# Altium schematic symbol library RLC.SchLib: 218 symbols (part 2 of 3)
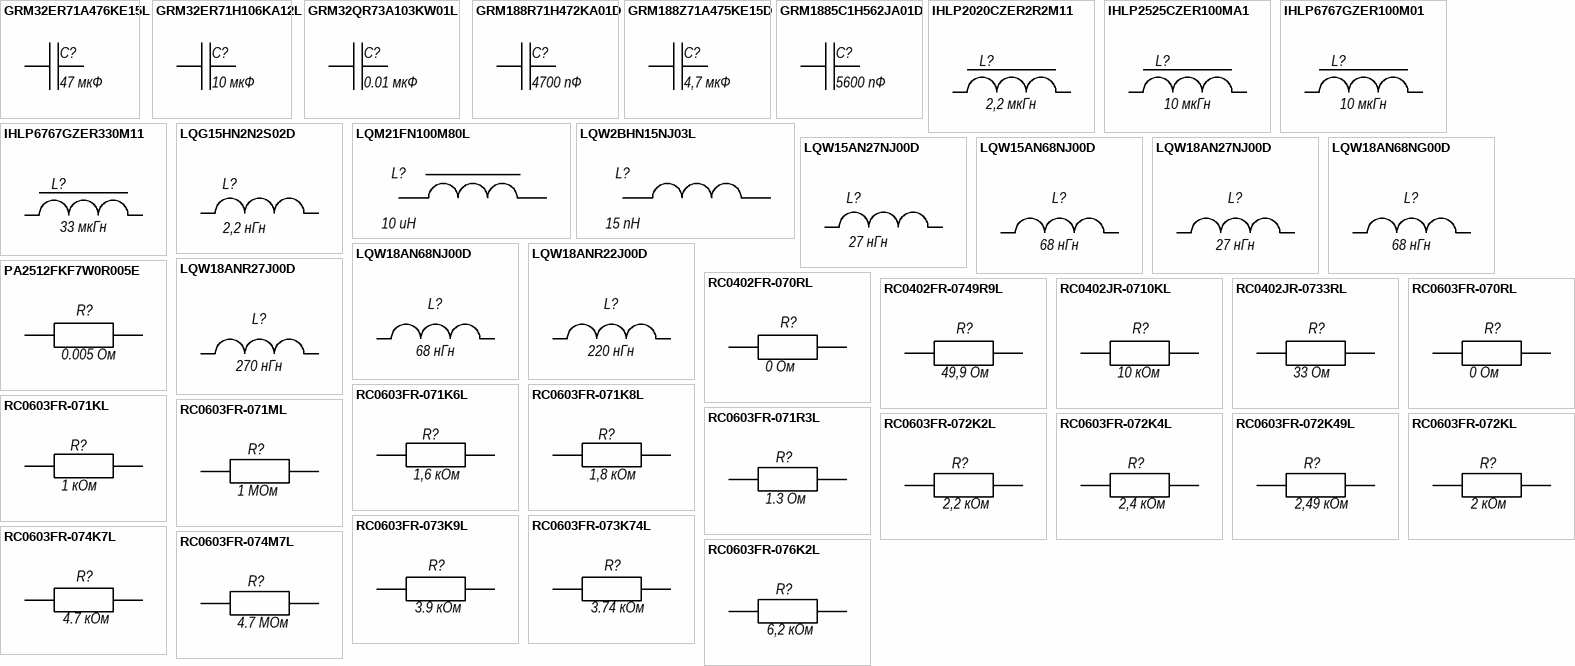
[diagram p6: symbols GRM32ER71A476KE15L to RC0603FR-076K2L]

## LQW15AN27NJ00D
designator L?, comment 27 нГн
SMD 0402 -27 нГн±5% 0,3 A; Part Number: LQW15AN27NJ00D; Manufacturer: Murata; BOM1: L0402 -27n Hr±5% 0,3 A; BOM2: LQW15A-27 нГн±5% 0,3 A; ValueBOM: LQW15AN27NJ00D   Murata                            (LQW15A-27 нГн±5% 0,3 A); Value: 27 нГн; Package: 0806
footprint INDC_0402_1005N (Chip Inductor, Body 1.1x0.5mm, IPC Medium Density)
footprint INDC_0402_1005M (Chip Inductor, Body 1.1x0.5mm, IPC Low Density)
footprint INDC_0402_1005L (Chip Inductor, Body 1.1x0.5mm, IPC High Density)
pins: 1, 2

## LQW15AN68NJ00D
designator L?, comment 68 нГн
SMD 0402 -68 нГн±5% 0,14 A; Part Number: LQW15AN68NJ00D; Manufacturer: Murata; BOM1: L0402 -68n Hr±5% 0,14 A; BOM2: LQW15A-68 нГн±5% 0,14 A; ValueBOM: LQW15AN68NJ00D   Murata                            (LQW15A-68 нГн±5% 0,14 A); Value: 68 нГн; Package: 0402
footprint INDC_0402_1005N (Chip Inductor, Body 1.1x0.5mm, IPC Medium Density)
footprint INDC_0402_1005M (Chip Inductor, Body 1.1x0.5mm, IPC Low Density)
footprint INDC_0402_1005L (Chip Inductor, Body 1.1x0.5mm, IPC High Density)
pins: 1, 2

## LQW18AN27NJ00D
designator L?, comment 27 нГн
SMD 0603 -27 нГн±5% 0,44 A; Part Number: LQW18AN27NJ00D; Manufacturer: Murata; BOM1: L0603 -27n Hr±5% 0,44 A; BOM2: LQW18A-27 нГн±5% 0,44 A; ValueBOM: LQW18AN27NJ00D   Murata                            (LQW18A-27 нГн±5% 0,44 A); Value: 27 нГн; Package: 0603
footprint INDC_0603_1608L (Chip Inductor, Body 1.6x0.8mm, IPC High Density)
footprint INDC_0603_1608M (Chip Inductor, Body 1.6x0.8mm, IPC Low Density)
footprint INDC_0603_1608N (Chip Inductor, Body 1.6x0.8mm, IPC Medium Density)
pins: 1, 2

## LQW18AN68NG00D
designator L?, comment 68 нГн
SMD 0603 -68 нГн±2% 0,34 A; Part Number: LQW18AN68NG00D; Manufacturer: Murata; BOM1: L0603 -68n Hr±2% 0,34 A; BOM2: LQW18A-68 нГн±2% 0,34 A; ValueBOM: LQW18AN68NG00D   Murata                            (LQW18A-68 нГн±2% 0,34 A); Value: 68 нГн; Package: 0603
footprint INDC_0603_1608L (Chip Inductor, Body 1.6x0.8mm, IPC High Density)
footprint INDC_0603_1608M (Chip Inductor, Body 1.6x0.8mm, IPC Low Density)
footprint INDC_0603_1608N (Chip Inductor, Body 1.6x0.8mm, IPC Medium Density)
pins: 1, 2

## LQW18AN68NJ00D
designator L?, comment 68 нГн
SMD 0603 -68 нГн±5% 0,34 A; Part Number: LQW18AN68NJ00D; Manufacturer: Murata; BOM1: L0603 -68n Hr±5% 0,34 A; BOM2: LQW18A-68 нГн±5% 0,34 A; ValueBOM: LQW18AN68NJ00D   Murata                            (LQW18A-68 нГн±5% 0,34 A); Value: 68 нГн; Package: 0603
footprint INDC_0603_1608L (Chip Inductor, Body 1.6x0.8mm, IPC High Density)
footprint INDC_0603_1608M (Chip Inductor, Body 1.6x0.8mm, IPC Low Density)
footprint INDC_0603_1608N (Chip Inductor, Body 1.6x0.8mm, IPC Medium Density)
pins: 1, 2

## LQW18ANR22J00D
designator L?, comment 220 нГн
SMD 0603 -220 нГн±5% 0,12 A; Part Number: LQW18ANR22J00D; Manufacturer: Murata; BOM1: L0603 -220n Hr±5% 0,12 A; BOM2: LQW18A-220 нГн±5% 0,12 A; ValueBOM: LQW18ANR22J00D   Murata                            (LQW18A-220 нГн±5% 0,12 A); Value: 220 нГн; Package: 0603
footprint INDC_0603_1608L (Chip Inductor, Body 1.6x0.8mm, IPC High Density)
footprint INDC_0603_1608M (Chip Inductor, Body 1.6x0.8mm, IPC Low Density)
footprint INDC_0603_1608N (Chip Inductor, Body 1.6x0.8mm, IPC Medium Density)
pins: 1, 2

## LQW18ANR27J00D
designator L?, comment 270 нГн
SMD 0603 -270 нГн±5% 0,11 A; Part Number: LQW18ANR27J00D; Manufacturer: Murata; BOM1: L0603 -270n Hr±5% 0,11 A; BOM2: LQW18A-270 нГн±5% 0,11 A; ValueBOM: LQW18ANR27J00D   Murata                            (LQW18A-270 нГн±5% 0,11 A); Value: 270 нГн; Package: 0603
footprint INDC_0603_1608L (Chip Inductor, Body 1.6x0.8mm, IPC High Density)
footprint INDC_0603_1608M (Chip Inductor, Body 1.6x0.8mm, IPC Low Density)
footprint INDC_0603_1608N (Chip Inductor, Body 1.6x0.8mm, IPC Medium Density)
pins: 1, 2

## PA2512FKF7W0R005E
designator R?, comment 0.005 Ом
SMD 0.005 OHM 1% 2W 2512; Part Number: PA2512FKF7W0R005E; Manufacturer: Yageo; BOM1: R2512 -0.005 Ohm±1 %; BOM2: RС2512 ±1 %-0.005 Ом; ValueBOM: PA2512FKF7W0R005E   Yageo                            (RС2512 ±1 %-0.005 Ом); Value: 0.005 Ом; Package: 2512
footprint RESC_2512_6332L (Chip Resistor, Body 6.3x3.2mm, IPC High Density)
footprint RESC_2512_6332N (Chip Resistor, Body 6.3x3.2mm, IPC Medium Density)
footprint RESC_2512_6332M (Chip Resistor, Body 6.3x3.2mm, IPC Low Density)
pins: 1, 2

## RC0402FR-070RL
designator R?, comment 0 Ом
SMD 0402 -0 Ом±1 %; Part Number: RC0402FR-070RL; Manufacturer: Yageo; BOM1: R0402 -0 Ohm±1 %; BOM2: RС0402 ±1 %-0 Ом; ValueBOM: RC0402FR-070RL   Yageo                            (RС0402 ±1 %-0 Ом); Value: 0 Ом; Package: 0402
footprint RESC_0402_1005L (Chip Resistor, Body 1.1x0.5mm, IPC High Density)
footprint RESC_0402_1005M (Chip Resistor, Body 1.1x0.5mm, IPC Low Density)
footprint RESC_0402_1005N (Chip Resistor, Body 1.1x0.5mm, IPC Medium Density)
pins: 1, 2

## RC0402FR-0749R9L
designator R?, comment 49,9 Ом
SMD 0402 - 49,9 Ом±1 %; Part Number: RC0402JR-0749R9L; Manufacturer: Yageo; BOM1: R0402 -49.9 Ohm±1 %; BOM2: RС0402 ±1 %-49,9 Ом; ValueBOM: RC0402JR-0749R9L   Yageo                            (RС0402 ±1 %-49,9 Ом); Value: 49,9 Ом; Package: 0402
footprint RESC_0402_1005L (Chip Resistor, Body 1.1x0.5mm, IPC High Density)
footprint RESC_0402_1005M (Chip Resistor, Body 1.1x0.5mm, IPC Low Density)
footprint RESC_0402_1005N (Chip Resistor, Body 1.1x0.5mm, IPC Medium Density)
pins: 1, 2

## RC0402JR-0710KL
designator R?, comment 10 кОм
SMD 0402 - 10 кОм±5 %; Part Number: RC0402JR-0710KL; Manufacturer: Yageo; BOM1: R0402 -10 kOhm±5 %; BOM2: RС0402 ±5 %-10 кОм; ValueBOM: RC0402JR-0710KL   Yageo                            (RС0402 ±5 %-10 кОм); Value: 10 кОм; Package: 0402
footprint RESC_0402_1005L (Chip Resistor, Body 1.1x0.5mm, IPC High Density)
footprint RESC_0402_1005M (Chip Resistor, Body 1.1x0.5mm, IPC Low Density)
footprint RESC_0402_1005N (Chip Resistor, Body 1.1x0.5mm, IPC Medium Density)
pins: 1, 2

## RC0402JR-0733RL
designator R?, comment 33 Ом
SMD 0402 - 33 Ом±5 %; Part Number: RC0402JR-0733RL; Manufacturer: Yageo; BOM1: R0402 -33 Ohm±5 %; BOM2: RС0402 ±5 %-33 Ом; ValueBOM: RC0402JR-0733RL   Yageo                            (RС0402 ±5 %-33 Ом); Value: 33 Ом; Package: 0402
footprint RESC_0402_1005L (Chip Resistor, Body 1.1x0.5mm, IPC High Density)
footprint RESC_0402_1005M (Chip Resistor, Body 1.1x0.5mm, IPC Low Density)
footprint RESC_0402_1005N (Chip Resistor, Body 1.1x0.5mm, IPC Medium Density)
pins: 1, 2

## RC0603FR-070RL
designator R?, comment 0 Ом
SMD 0603 -0 Ом±1 %; Part Number: RC0603FR-070RL; Manufacturer: Yageo; BOM1: R0603 -0 Ohm±1 %; BOM2: RС0603 ±1 %-0 Ом; ValueBOM: RC0603FR-070RL   Yageo                            (RС0603 ±1 %-0 Ом); Value: 0 Ом; Package: 0603
footprint RESC_0603_1608N (Chip Resistor, Body 1.6x0.8mm, IPC Medium Density)
footprint RESC_0603_1608M (Chip Resistor, Body 1.6x0.8mm, IPC Low Density)
footprint RESC_0603_1608L (Chip Resistor, Body 1.6x0.8mm, IPC High Density)
pins: 1, 2

## RC0603FR-071K6L
designator R?, comment 1,6 кОм
SMD 0603 -1,6 кОм±1 %; Part Number: RC0603FR-071K6L; Manufacturer: Yageo; BOM1: R0603 -1,6K Ohm±1 %; BOM2: RС0603 ±1 %-1,6 кОм; ValueBOM: RC0603FR-071K6L   Yageo                            (RС0603 ±1 %-1,6 кОм); Value: 1,6 кОм; Package: 0603
footprint RESC_0603_1608N (Chip Resistor, Body 1.6x0.8mm, IPC Medium Density)
footprint RESC_0603_1608M (Chip Resistor, Body 1.6x0.8mm, IPC Low Density)
footprint RESC_0603_1608L (Chip Resistor, Body 1.6x0.8mm, IPC High Density)
pins: 1, 2

## RC0603FR-071K8L
designator R?, comment 1,8 кОм
SMD 0603 -1,8 кОм±1 %; Part Number: RC0603FR-071K8L; Manufacturer: Yageo; BOM1: R0603 -1,8K Ohm±1 %; BOM2: RС0603 ±1 %-1,8 кОм; ValueBOM: RC0603FR-071K8L   Yageo                            (RС0603 ±1 %-1,8 кОм); Value: 1,8 кОм; Package: 0603
footprint RESC_0603_1608N (Chip Resistor, Body 1.6x0.8mm, IPC Medium Density)
footprint RESC_0603_1608M (Chip Resistor, Body 1.6x0.8mm, IPC Low Density)
footprint RESC_0603_1608L (Chip Resistor, Body 1.6x0.8mm, IPC High Density)
pins: 1, 2

## RC0603FR-071KL
designator R?, comment 1 кОм
SMD 0603 -1 кОм±1 %; Part Number: RC0603FR-071KL; Manufacturer: Yageo; BOM1: R0603 -1K Ohm±1 %; BOM2: RС0603 ±1 %-1 кОм; ValueBOM: RC0603FR-071KL   Yageo                            (RС0603 ±1 %-1 кОм); Value: 1 кОм; Package: 0603
footprint RESC_0603_1608N (Chip Resistor, Body 1.6x0.8mm, IPC Medium Density)
footprint RESC_0603_1608M (Chip Resistor, Body 1.6x0.8mm, IPC Low Density)
footprint RESC_0603_1608L (Chip Resistor, Body 1.6x0.8mm, IPC High Density)
pins: 1, 2

## RC0603FR-071ML
designator R?, comment 1 MОм
SMD 0603 -1 МОм±1 %; Part Number: RC0603FR-071ML; Manufacturer: Yageo; BOM1: R0603 -1M Ohm±1 %; BOM2: RС0603 ±1 %-1 МОм; ValueBOM: RC0603FR-071ML   Yageo                            (RС0603 ±1 %-1 МОм); Value: 1 MОм; Package: 0603
footprint RESC_0603_1608N (Chip Resistor, Body 1.6x0.8mm, IPC Medium Density)
footprint RESC_0603_1608M (Chip Resistor, Body 1.6x0.8mm, IPC Low Density)
footprint RESC_0603_1608L (Chip Resistor, Body 1.6x0.8mm, IPC High Density)
pins: 1, 2

## RC0603FR-071R3L
designator R?, comment 1.3 Ом
SMD 0603 -1.3 Ом±1 %; Part Number: RC0603FR-071R3L; Manufacturer: Yageo; BOM1: R0603 -1.3 Ом Ohm±1 %; BOM2: RС0603 ±1 %-1.3 Ом Ом; ValueBOM: RC0603FR-071R3L   Yageo                            (RС0603 ±1 %-1.3 Ом Ом); Value: 1.3 Ом; Package: 0603
footprint RESC_0603_1608N (Chip Resistor, Body 1.6x0.8mm, IPC Medium Density)
footprint RESC_0603_1608M (Chip Resistor, Body 1.6x0.8mm, IPC Low Density)
footprint RESC_0603_1608L (Chip Resistor, Body 1.6x0.8mm, IPC High Density)
pins: 1, 2

## RC0603FR-072K2L
designator R?, comment 2,2 кОм
SMD 0603 -2,2 кОм±1 %; Part Number: RC0603FR-072K2L; Manufacturer: Yageo; BOM1: R0603 -2,2K Ohm±1 %; BOM2: RС0603 ±1 %-2,2 кОм; ValueBOM: RC0603FR-072K2L   Yageo                            (RС0603 ±1 %-2,2 кОм); Value: 2,2 кОм; Package: 0603
footprint RESC_0603_1608N (Chip Resistor, Body 1.6x0.8mm, IPC Medium Density)
footprint RESC_0603_1608M (Chip Resistor, Body 1.6x0.8mm, IPC Low Density)
footprint RESC_0603_1608L (Chip Resistor, Body 1.6x0.8mm, IPC High Density)
pins: 1, 2

## RC0603FR-072K4L
designator R?, comment 2,4 кОм
SMD 0603 -2,4 кОм±1 %; Part Number: RC0603FR-072K4L; Manufacturer: Yageo; BOM1: R0603 -2,4K Ohm±1 %; BOM2: RС0603 ±1 %-2,4 кОм; ValueBOM: RC0603FR-072K4L   Yageo                            (RС0603 ±1 %-2,4 кОм); Value: 2,4 кОм; Package: 0603
footprint RESC_0603_1608N (Chip Resistor, Body 1.6x0.8mm, IPC Medium Density)
footprint RESC_0603_1608M (Chip Resistor, Body 1.6x0.8mm, IPC Low Density)
footprint RESC_0603_1608L (Chip Resistor, Body 1.6x0.8mm, IPC High Density)
pins: 1, 2

## RC0603FR-072K49L
designator R?, comment 2,49 кОм
SMD 0603 -2,49 кОм±1 %; Part Number: RC0603FR-072K49L; Manufacturer: Yageo; BOM1: R0603 -2,49K Ohm±1 %; BOM2: RС0603 ±1 %-2,49 кОм; ValueBOM: RC0603FR-072K49L   Yageo                            (RС0603 ±1 %-2,49 кОм); Value: 2,49 кОм; Package: 0603
footprint RESC_0603_1608N (Chip Resistor, Body 1.6x0.8mm, IPC Medium Density)
footprint RESC_0603_1608M (Chip Resistor, Body 1.6x0.8mm, IPC Low Density)
footprint RESC_0603_1608L (Chip Resistor, Body 1.6x0.8mm, IPC High Density)
pins: 1, 2

## RC0603FR-072KL
designator R?, comment 2 кОм
SMD 0603 -2 кОм±1 %; Part Number: RC0603FR-072KL; Manufacturer: Yageo; BOM1: R0603 -2K Ohm±1 %; BOM2: RС0603 ±1 %-2 кОм; ValueBOM: RC0603FR-072KL   Yageo                            (RС0603 ±1 %-2 кОм); Value: 2 кОм; Package: 0603
footprint RESC_0603_1608N (Chip Resistor, Body 1.6x0.8mm, IPC Medium Density)
footprint RESC_0603_1608M (Chip Resistor, Body 1.6x0.8mm, IPC Low Density)
footprint RESC_0603_1608L (Chip Resistor, Body 1.6x0.8mm, IPC High Density)
pins: 1, 2

## RC0603FR-073K9L
designator R?, comment 3.9 кОм
SMD 0603 -3.9 кОм±1 %; Part Number: RC0603FR-073K9L; Manufacturer: Yageo; BOM1: R0603 -3.9K Ohm±1 %; BOM2: RС0603 ±1 %-3,9 кОм; ValueBOM: RC0603FR-073K9L   Yageo                            (RС0603 ±1 %-3,9 кОм); Value: 3.9 кОм; Package: 0603
footprint RESC_0603_1608N (Chip Resistor, Body 1.6x0.8mm, IPC Medium Density)
footprint RESC_0603_1608M (Chip Resistor, Body 1.6x0.8mm, IPC Low Density)
footprint RESC_0603_1608L (Chip Resistor, Body 1.6x0.8mm, IPC High Density)
pins: 1, 2

## RC0603FR-073K74L
designator R?, comment 3.74 кОм
SMD 0603 -3.74 кОм±1 %; Part Number: RC0603FR-073K74L; Manufacturer: Yageo; BOM1: R0603 -3.74K Ohm±1 %; BOM2: RС0603 ±1 %-3,74 кОм; ValueBOM: RC0603FR-073K74L   Yageo                            (RС0603 ±1 %-3,74 кОм); Value: 3.74 кОм; Package: 0603
footprint RESC_0603_1608N (Chip Resistor, Body 1.6x0.8mm, IPC Medium Density)
footprint RESC_0603_1608M (Chip Resistor, Body 1.6x0.8mm, IPC Low Density)
footprint RESC_0603_1608L (Chip Resistor, Body 1.6x0.8mm, IPC High Density)
pins: 1, 2

## RC0603FR-074K7L
designator R?, comment 4.7 кОм
SMD 0603 -4.7 кОм±1 %; Part Number: RC0603FR-074K7L; Manufacturer: Yageo; BOM1: R0603 -4.7K Ohm±1 %; BOM2: RС0603 ±1 %-4,7 кОм; ValueBOM: RC0603FR-074K7L   Yageo                            (RС0603 ±1 %-4,7 кОм); Value: 4.7 кОм; Package: 0603
footprint RESC_0603_1608N (Chip Resistor, Body 1.6x0.8mm, IPC Medium Density)
footprint RESC_0603_1608M (Chip Resistor, Body 1.6x0.8mm, IPC Low Density)
footprint RESC_0603_1608L (Chip Resistor, Body 1.6x0.8mm, IPC High Density)
pins: 1, 2

## RC0603FR-074M7L
designator R?, comment 4.7 MОм
SMD 0603 -4.7 МОм±1 %; Part Number: RC0603FR-074M7L; Manufacturer: Yageo; BOM1: R0603 -4.7 M Ohm±1 %; BOM2: RС0603 ±1 %-4,7 МОм; ValueBOM: RC0603FR-074M7L   Yageo                            (RС0603 ±1 %-4,7 МОм); Value: 4.7 MОм; Package: 0603
footprint RESC_0603_1608N (Chip Resistor, Body 1.6x0.8mm, IPC Medium Density)
footprint RESC_0603_1608M (Chip Resistor, Body 1.6x0.8mm, IPC Low Density)
footprint RESC_0603_1608L (Chip Resistor, Body 1.6x0.8mm, IPC High Density)
pins: 1, 2

## RC0603FR-076K2L
designator R?, comment 6,2 кОм
SMD 0603 -6,2 кОм±1 %; Part Number: RC0603FR-076K2L; Manufacturer: Yageo; BOM1: R0603 -6,2K Ohm±1 %; BOM2: RС0603 ±1 %-6,2 кОм; ValueBOM: RC0603FR-076K2L   Yageo                            (RС0603 ±1 %-6,2 кОм); Value: 6,2 кОм; Package: 0603
footprint RESC_0603_1608N (Chip Resistor, Body 1.6x0.8mm, IPC Medium Density)
footprint RESC_0603_1608M (Chip Resistor, Body 1.6x0.8mm, IPC Low Density)
footprint RESC_0603_1608L (Chip Resistor, Body 1.6x0.8mm, IPC High Density)
pins: 1, 2

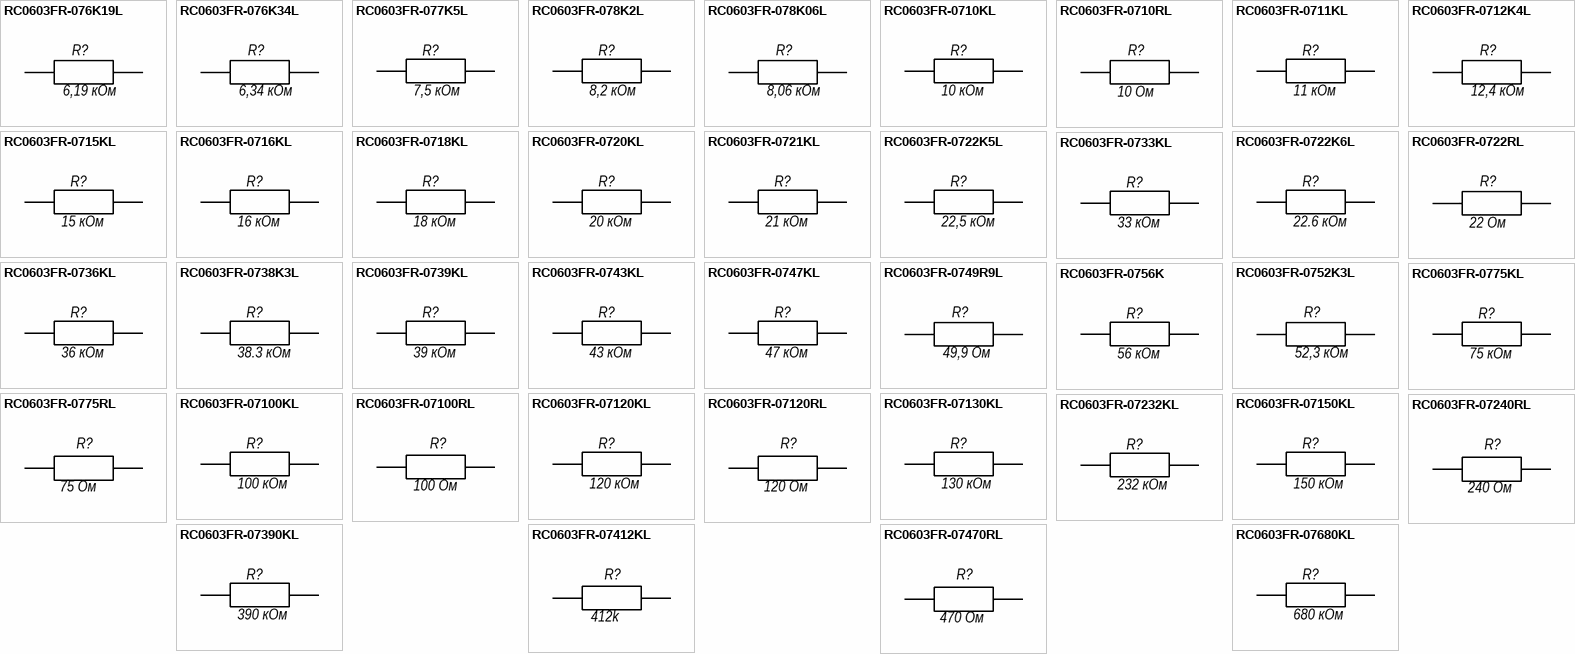
[diagram p3: symbols RC0603FR-076K19L to RC0603FR-07680KL]

## RC0603FR-076K19L
designator R?, comment 6,19 кОм
SMD 0603 -6,19 кОм±1 %; Part Number: RC0603FR-076K19L; Manufacturer: Yageo; BOM1: R0603 -6,19k Ohm±1 %; BOM2: RС0603 ±1 %-6,19 кОм; ValueBOM: RC0603FR-076K19L   Yageo                            (RС0603 ±1 %-6,19 кОм); Value: 6,19 кОм; Package: 0603
footprint RESC_0603_1608N (Chip Resistor, Body 1.6x0.8mm, IPC Medium Density)
footprint RESC_0603_1608M (Chip Resistor, Body 1.6x0.8mm, IPC Low Density)
footprint RESC_0603_1608L (Chip Resistor, Body 1.6x0.8mm, IPC High Density)
pins: 1, 2

## RC0603FR-076K34L
designator R?, comment 6,34 кОм
SMD 0603 -6,34 кОм±1 %; Part Number: RC0603FR-076K34L; Manufacturer: Yageo; BOM1: R0603 -6,34k Ohm±1 %; BOM2: RС0603 ±1 %-6,34 кОм; ValueBOM: RC0603FR-076K34L   Yageo                            (RС0603 ±1 %-6,34 кОм); Value: 6,34 кОм; Package: 0603
footprint RESC_0603_1608N (Chip Resistor, Body 1.6x0.8mm, IPC Medium Density)
footprint RESC_0603_1608M (Chip Resistor, Body 1.6x0.8mm, IPC Low Density)
footprint RESC_0603_1608L (Chip Resistor, Body 1.6x0.8mm, IPC High Density)
pins: 1, 2

## RC0603FR-077K5L
designator R?, comment 7,5 кОм
SMD 0603 -7,5 кОм±1 %; Part Number: RC0603FR-077K5L; Manufacturer: Yageo; BOM1: R0603 -7,5K Ohm±1 %; BOM2: RС0603 ±1 %-7,5 кОм; ValueBOM: RC0603FR-077K5L   Yageo                            (RС0603 ±1 %-7,5 кОм); Value: 7,5 кОм; Package: 0603
footprint RESC_0603_1608N (Chip Resistor, Body 1.6x0.8mm, IPC Medium Density)
footprint RESC_0603_1608M (Chip Resistor, Body 1.6x0.8mm, IPC Low Density)
footprint RESC_0603_1608L (Chip Resistor, Body 1.6x0.8mm, IPC High Density)
pins: 1, 2

## RC0603FR-078K2L
designator R?, comment 8,2 кОм
SMD 0603 -8,2 кОм±1 %; Part Number: RC0603FR-078K2L; Manufacturer: Yageo; BOM1: R0603 -8,2K Ohm±1 %; BOM2: RС0603 ±1 %-8,2 кОм; ValueBOM: RC0603FR-078K2L   Yageo                            (RС0603 ±1 %-8,2 кОм); Value: 8,2 кОм; Package: 0603
footprint RESC_0603_1608N (Chip Resistor, Body 1.6x0.8mm, IPC Medium Density)
footprint RESC_0603_1608M (Chip Resistor, Body 1.6x0.8mm, IPC Low Density)
footprint RESC_0603_1608L (Chip Resistor, Body 1.6x0.8mm, IPC High Density)
pins: 1, 2

## RC0603FR-078K06L
designator R?, comment 8,06 кОм
SMD 0603 -8,06 кОм±1 %; Part Number: RC0603FR-078K06L; Manufacturer: Yageo; BOM1: R0603 -8,06k Ohm±1 %; BOM2: RС0603 ±1 %-8,06 кОм; ValueBOM: RC0603FR-078K06L   Yageo                            (RС0603 ±1 %-8,06 кОм); Value: 8,06 кОм; Package: 0603
footprint RESC_0603_1608N (Chip Resistor, Body 1.6x0.8mm, IPC Medium Density)
footprint RESC_0603_1608M (Chip Resistor, Body 1.6x0.8mm, IPC Low Density)
footprint RESC_0603_1608L (Chip Resistor, Body 1.6x0.8mm, IPC High Density)
pins: 1, 2

## RC0603FR-0710KL
designator R?, comment 10 кОм
SMD 0603 -10 кОм±1 %; Part Number: RC0603FR-0710KL; Manufacturer: Yageo; BOM1: R0603 -10K Ohm±1 %; BOM2: RС0603 ±1 %-10 кОм; ValueBOM: RC0603FR-0710KL   Yageo                            (RС0603 ±1 %-10 кОм); Value: 10 кОм; Package: 0603
footprint RESC_0603_1608N (Chip Resistor, Body 1.6x0.8mm, IPC Medium Density)
footprint RESC_0603_1608M (Chip Resistor, Body 1.6x0.8mm, IPC Low Density)
footprint RESC_0603_1608L (Chip Resistor, Body 1.6x0.8mm, IPC High Density)
pins: 1, 2

## RC0603FR-0710RL
designator R?, comment 10 Ом
SMD 0603 -10 Ом±1 %; Part Number: RC0603FR-0710RL; Manufacturer: Yageo; BOM1: R0603 -10 Ohm±1 %; BOM2: RС0603 ±1 %-10 Ом; ValueBOM: RC0603FR-0710RL   Yageo                            (RС0603 ±1 %-10 Ом); Value: 10 Ом; Package: 0603
footprint RESC_0603_1608N (Chip Resistor, Body 1.6x0.8mm, IPC Medium Density)
footprint RESC_0603_1608M (Chip Resistor, Body 1.6x0.8mm, IPC Low Density)
footprint RESC_0603_1608L (Chip Resistor, Body 1.6x0.8mm, IPC High Density)
pins: 1, 2

## RC0603FR-0711KL
designator R?, comment 11 кОм
SMD 0603 -11 кОм±1 %; Part Number: RC0603FR-0711KL; Manufacturer: Yageo; BOM1: R0603 -11K Ohm±1 %; BOM2: RС0603 ±1 %-11 кОм; ValueBOM: RC0603FR-0711KL   Yageo                            (RС0603 ±1 %-11 кОм); Value: 11 кОм; Package: 0603
footprint RESC_0603_1608N (Chip Resistor, Body 1.6x0.8mm, IPC Medium Density)
footprint RESC_0603_1608M (Chip Resistor, Body 1.6x0.8mm, IPC Low Density)
footprint RESC_0603_1608L (Chip Resistor, Body 1.6x0.8mm, IPC High Density)
pins: 1, 2

## RC0603FR-0712K4L
designator R?, comment 12,4 кОм
SMD 0603 -12,4 кОм±1 %; Part Number: RC0603FR-0712K4L; Manufacturer: Yageo; BOM1: R0603 -12,4K Ohm±1 %; BOM2: RС0603 ±1 %-12,4 кОм; ValueBOM: RC0603FR-0712K4L   Yageo                            (RС0603 ±1 %-12,4 кОм); Value: 12,4 кОм; Package: 0603
footprint RESC_0603_1608N (Chip Resistor, Body 1.6x0.8mm, IPC Medium Density)
footprint RESC_0603_1608M (Chip Resistor, Body 1.6x0.8mm, IPC Low Density)
footprint RESC_0603_1608L (Chip Resistor, Body 1.6x0.8mm, IPC High Density)
pins: 1, 2

## RC0603FR-0715KL
designator R?, comment 15 кОм
SMD 0603 -15 кОм±1 %; Part Number: RC0603FR-0715KL; Manufacturer: Yageo; BOM1: R0603 -15K Ohm±1 %; BOM2: RС0603 ±1 %-15 кОм; ValueBOM: RC0603FR-0715KL   Yageo                            (RС0603 ±1 %-15 кОм); Value: 15 кОм; Package: 0603
footprint RESC_0603_1608N (Chip Resistor, Body 1.6x0.8mm, IPC Medium Density)
footprint RESC_0603_1608M (Chip Resistor, Body 1.6x0.8mm, IPC Low Density)
footprint RESC_0603_1608L (Chip Resistor, Body 1.6x0.8mm, IPC High Density)
pins: 1, 2

## RC0603FR-0716KL
designator R?, comment 16 кОм
SMD 0603 -16 кОм±1 %; Part Number: RC0603FR-0716KL; Manufacturer: Yageo; BOM1: R0603 -16K Ohm±1 %; BOM2: RС0603 ±1 %-16 кОм; ValueBOM: RC0603FR-0716KL   Yageo                            (RС0603 ±1 %-16 кОм); Value: 16 кОм; Package: 0603
footprint RESC_0603_1608N (Chip Resistor, Body 1.6x0.8mm, IPC Medium Density)
footprint RESC_0603_1608M (Chip Resistor, Body 1.6x0.8mm, IPC Low Density)
footprint RESC_0603_1608L (Chip Resistor, Body 1.6x0.8mm, IPC High Density)
pins: 1, 2

## RC0603FR-0718KL
designator R?, comment 18 кОм
SMD 0603 -18 кОм±1 %; Part Number: RC0603FR-0718KL; Manufacturer: Yageo; BOM1: R0603 -18K Ohm±1 %; BOM2: RС0603 ±1 %-18 кОм; ValueBOM: RC0603FR-0718KL   Yageo                            (RС0603 ±1 %-18 кОм); Value: 18 кОм; Package: 0603
footprint RESC_0603_1608N (Chip Resistor, Body 1.6x0.8mm, IPC Medium Density)
footprint RESC_0603_1608M (Chip Resistor, Body 1.6x0.8mm, IPC Low Density)
footprint RESC_0603_1608L (Chip Resistor, Body 1.6x0.8mm, IPC High Density)
pins: 1, 2

## RC0603FR-0720KL
designator R?, comment 20 кОм
SMD 0603 -20 кОм±1 %; Part Number: RC0603FR-0720KL; Manufacturer: Yageo; BOM1: R0603 -20K Ohm±1 %; BOM2: RС0603 ±1 %-20 кОм; ValueBOM: RC0603FR-0720KL   Yageo                            (RС0603 ±1 %-20 кОм); Value: 20 кОм; Package: 0603
footprint RESC_0603_1608N (Chip Resistor, Body 1.6x0.8mm, IPC Medium Density)
footprint RESC_0603_1608M (Chip Resistor, Body 1.6x0.8mm, IPC Low Density)
footprint RESC_0603_1608L (Chip Resistor, Body 1.6x0.8mm, IPC High Density)
pins: 1, 2

## RC0603FR-0721KL
designator R?, comment 21 кОм
SMD 0603 -21 кОм±1 %; Part Number: RC0603FR-0721KL; Manufacturer: Yageo; BOM1: R0603 -21K Ohm±1 %; BOM2: RС0603 ±1 %-21 кОм; ValueBOM: RC0603FR-0721KL   Yageo                            (RС0603 ±1 %-21 кОм); Value: 21 кОм; Package: 0603
footprint RESC_0603_1608N (Chip Resistor, Body 1.6x0.8mm, IPC Medium Density)
footprint RESC_0603_1608M (Chip Resistor, Body 1.6x0.8mm, IPC Low Density)
footprint RESC_0603_1608L (Chip Resistor, Body 1.6x0.8mm, IPC High Density)
pins: 1, 2

## RC0603FR-0722K5L
designator R?, comment 22,5 кОм
SMD 0603 -22,5 кОм±1 %; Part Number: RC0603FR-0722K5L; Manufacturer: Yageo; BOM1: R0603 -22,5K Ohm±1 %; BOM2: RС0603 ±1 %-22,5 кОм; ValueBOM: RC0603FR-0722K5L   Yageo                            (RС0603 ±1 %-22,5 кОм); Value: 22,5 кОм; Package: 0603
footprint RESC_0603_1608N (Chip Resistor, Body 1.6x0.8mm, IPC Medium Density)
footprint RESC_0603_1608M (Chip Resistor, Body 1.6x0.8mm, IPC Low Density)
footprint RESC_0603_1608L (Chip Resistor, Body 1.6x0.8mm, IPC High Density)
pins: 1, 2

## RC0603FR-0722K6L
designator R?, comment 22.6 кОм
SMD 0603 -22.6 кОм±1 %; Part Number: RC0603FR-0722K6L; Manufacturer: Yageo; BOM1: R0603 -22.6K Ohm±1 %; BOM2: RС0603 ±1 %-22,6 кОм; ValueBOM: RC0603FR-0722K6L   Yageo                            (RС0603 ±1 %-22,6 кОм); Value: 22.6 кОм; Package: 0603
footprint RESC_0603_1608N (Chip Resistor, Body 1.6x0.8mm, IPC Medium Density)
footprint RESC_0603_1608M (Chip Resistor, Body 1.6x0.8mm, IPC Low Density)
footprint RESC_0603_1608L (Chip Resistor, Body 1.6x0.8mm, IPC High Density)
pins: 1, 2

## RC0603FR-0722RL
designator R?, comment 22 Ом
SMD 0603 -22 Ом±1 %; Part Number: RC0603FR-0722RL; Manufacturer: Yageo; BOM1: R0603 -22 Ohm±1 %; BOM2: RС0603 ±1 %-22 Ом; ValueBOM: RC0603FR-0722RL   Yageo                            (RС0603 ±1 %-22 Ом); Value: 22 Ом; Package: 0603
footprint RESC_0603_1608N (Chip Resistor, Body 1.6x0.8mm, IPC Medium Density)
footprint RESC_0603_1608M (Chip Resistor, Body 1.6x0.8mm, IPC Low Density)
footprint RESC_0603_1608L (Chip Resistor, Body 1.6x0.8mm, IPC High Density)
pins: 1, 2

## RC0603FR-0733KL
designator R?, comment 33 кОм
SMD 0603 -33 кОм±1 %; Part Number: RC0603FR-0733KL; Manufacturer: Yageo; BOM1: R0603 -33K Ohm±1 %; BOM2: RС0603 ±1 %-33 кОм; ValueBOM: RC0603FR-0733KL   Yageo                            (RС0603 ±1 %-33 кОм); Value: 33 кОм; Package: 0603
footprint RESC_0603_1608N (Chip Resistor, Body 1.6x0.8mm, IPC Medium Density)
footprint RESC_0603_1608M (Chip Resistor, Body 1.6x0.8mm, IPC Low Density)
footprint RESC_0603_1608L (Chip Resistor, Body 1.6x0.8mm, IPC High Density)
pins: 1, 2

## RC0603FR-0736KL
designator R?, comment 36 кОм
SMD 0603 -36 кОм±1 %; Part Number: RC0603FR-0736KL; Manufacturer: Yageo; BOM1: R0603 -36K Ohm±1 %; BOM2: RС0603 ±1 %-36 кОм; ValueBOM: RC0603FR-0736KL   Yageo                            (RС0603 ±1 %-36 кОм); Value: 36 кОм; Package: 0603
footprint RESC_0603_1608N (Chip Resistor, Body 1.6x0.8mm, IPC Medium Density)
footprint RESC_0603_1608M (Chip Resistor, Body 1.6x0.8mm, IPC Low Density)
footprint RESC_0603_1608L (Chip Resistor, Body 1.6x0.8mm, IPC High Density)
pins: 1, 2

## RC0603FR-0738K3L
designator R?, comment 38.3 кОм
SMD 0603 -38.3 кОм±1 %; Part Number: RC0603FR-0738K3L; Manufacturer: Yageo; BOM1: R0603 -38.3K Ohm±1 %; BOM2: RС0603 ±1 %-38,3 кОм; ValueBOM: RC0603FR-0738K3L   Yageo                            (RС0603 ±1 %-38,3 кОм); Value: 38.3 кОм; Package: 0603
footprint RESC_0603_1608N (Chip Resistor, Body 1.6x0.8mm, IPC Medium Density)
footprint RESC_0603_1608M (Chip Resistor, Body 1.6x0.8mm, IPC Low Density)
footprint RESC_0603_1608L (Chip Resistor, Body 1.6x0.8mm, IPC High Density)
pins: 1, 2

## RC0603FR-0739KL
designator R?, comment 39 кОм
SMD 0603 -39 кОм±1 %; Part Number: RC0603FR-0739KL; Manufacturer: Yageo; BOM1: R0603 -39K Ohm±1 %; BOM2: RС0603 ±1 %-39 кОм; ValueBOM: RC0603FR-0739KL   Yageo                            (RС0603 ±1 %-39 кОм); Value: 39 кОм; Package: 0603
footprint RESC_0603_1608N (Chip Resistor, Body 1.6x0.8mm, IPC Medium Density)
footprint RESC_0603_1608M (Chip Resistor, Body 1.6x0.8mm, IPC Low Density)
footprint RESC_0603_1608L (Chip Resistor, Body 1.6x0.8mm, IPC High Density)
pins: 1, 2

## RC0603FR-0743KL
designator R?, comment 43 кОм
SMD 0603 -43 кОм±1 %; Part Number: RC0603FR-0743KL; Manufacturer: Yageo; BOM1: R0603 -43K Ohm±1 %; BOM2: RС0603 ±1 %-43 кОм; ValueBOM: RC0603FR-0743KL   Yageo                            (RС0603 ±1 %-43 кОм); Value: 43 кОм; Package: 0603
footprint RESC_0603_1608N (Chip Resistor, Body 1.6x0.8mm, IPC Medium Density)
footprint RESC_0603_1608M (Chip Resistor, Body 1.6x0.8mm, IPC Low Density)
footprint RESC_0603_1608L (Chip Resistor, Body 1.6x0.8mm, IPC High Density)
pins: 1, 2

## RC0603FR-0747KL
designator R?, comment 47 кОм
SMD 0603 -47 кОм±1 %; Part Number: RC0603FR-0747KL; Manufacturer: Yageo; BOM1: R0603 -47K Ohm±1 %; BOM2: RС0603 ±1 %-47 кОм; ValueBOM: RC0603FR-0747KL   Yageo                            (RС0603 ±1 %-47 кОм); Value: 47 кОм; Package: 0603
footprint RESC_0603_1608N (Chip Resistor, Body 1.6x0.8mm, IPC Medium Density)
footprint RESC_0603_1608M (Chip Resistor, Body 1.6x0.8mm, IPC Low Density)
footprint RESC_0603_1608L (Chip Resistor, Body 1.6x0.8mm, IPC High Density)
pins: 1, 2

## RC0603FR-0749R9L
designator R?, comment 49,9 Ом
SMD 0603 -49,9 Ом±1 %; Part Number: RC0603FR-0749R9L; Manufacturer: Yageo; BOM1: R0603 -49,9 Ohm±1 %; BOM2: RС0603 ±1 %-49,9 кОм; ValueBOM: RC0603FR-0749R9L   Yageo                            (RС0603 ±1 %-49,9 кОм); Value: 49,9 Ом; Package: 0603
footprint RESC_0603_1608N (Chip Resistor, Body 1.6x0.8mm, IPC Medium Density)
footprint RESC_0603_1608M (Chip Resistor, Body 1.6x0.8mm, IPC Low Density)
footprint RESC_0603_1608L (Chip Resistor, Body 1.6x0.8mm, IPC High Density)
pins: 1, 2

## RC0603FR-0752K3L
designator R?, comment 52,3 кОм
SMD 0603 -52,3 кОм±1 %; Part Number: RC0603FR-0752K3L; Manufacturer: Yageo; BOM1: R0603 -52,3K Ohm±1 %; BOM2: RС0603 ±1 %-52,3 кОм; ValueBOM: RC0603FR-0752K3L   Yageo                            (RС0603 ±1 %-52,3 кОм); Value: 52,3 кОм; Package: 0603
footprint RESC_0603_1608N (Chip Resistor, Body 1.6x0.8mm, IPC Medium Density)
footprint RESC_0603_1608M (Chip Resistor, Body 1.6x0.8mm, IPC Low Density)
footprint RESC_0603_1608L (Chip Resistor, Body 1.6x0.8mm, IPC High Density)
pins: 1, 2

## RC0603FR-0756K
designator R?, comment 56 кОм
SMD 0603 -56 кОм±1 %; Part Number: RC0603FR-0756K; Manufacturer: Yageo; BOM1: R0603 -56K Ohm±1 %; BOM2: RС0603 ±1 %-56 кОм; ValueBOM: RC0603FR-0756K   Yageo                            (RС0603 ±1 %-56 кОм); Value: 56 кОм; Package: 0603
footprint RESC_0603_1608N (Chip Resistor, Body 1.6x0.8mm, IPC Medium Density)
footprint RESC_0603_1608M (Chip Resistor, Body 1.6x0.8mm, IPC Low Density)
footprint RESC_0603_1608L (Chip Resistor, Body 1.6x0.8mm, IPC High Density)
pins: 1, 2

## RC0603FR-0775KL
designator R?, comment 75 кОм
SMD 0603 -75 кОм±1 %; Part Number: RC0603FR-0775KL; Manufacturer: Yageo; BOM1: R0603 -75K Ohm±1 %; BOM2: RС0603 ±1 %-75 кОм; ValueBOM: RC0603FR-0775KL   Yageo                            (RС0603 ±1 %-75 кОм); Value: 75 кОм; Package: 0603
footprint RESC_0603_1608N (Chip Resistor, Body 1.6x0.8mm, IPC Medium Density)
footprint RESC_0603_1608M (Chip Resistor, Body 1.6x0.8mm, IPC Low Density)
footprint RESC_0603_1608L (Chip Resistor, Body 1.6x0.8mm, IPC High Density)
pins: 1, 2

## RC0603FR-0775RL
designator R?, comment 75 Ом
SMD 0603 -75 Ом±1 %; Part Number: RC0603FR-0775RL; Manufacturer: Yageo; BOM1: R0603 -75 Ohm±1 %; BOM2: RС0603 ±1 %-75 Ом; ValueBOM: RC0603FR-0775RL   Yageo                            (RС0603 ±1 %-75 Ом); Value: 75 Ом; Package: 0603
footprint RESC_0603_1608N (Chip Resistor, Body 1.6x0.8mm, IPC Medium Density)
footprint RESC_0603_1608M (Chip Resistor, Body 1.6x0.8mm, IPC Low Density)
footprint RESC_0603_1608L (Chip Resistor, Body 1.6x0.8mm, IPC High Density)
pins: 1, 2

## RC0603FR-07100KL
designator R?, comment 100 кОм
SMD 0603 -100 кОм±1 %; Part Number: RC0603FR-07100KL; Manufacturer: Yageo; BOM1: R0603 -100K Ohm±1 %; BOM2: RС0603 ±1 %-100 кОм; ValueBOM: RC0603FR-07100KL   Yageo                            (RС0603 ±1 %-100 кОм); Value: 100 кОм; Package: 0603
footprint RESC_0603_1608N (Chip Resistor, Body 1.6x0.8mm, IPC Medium Density)
footprint RESC_0603_1608M (Chip Resistor, Body 1.6x0.8mm, IPC Low Density)
footprint RESC_0603_1608L (Chip Resistor, Body 1.6x0.8mm, IPC High Density)
pins: 1, 2

## RC0603FR-07100RL
designator R?, comment 100 Ом
SMD 0603 -100 Ом±1 %; Part Number: RC0603FR-07100RL; Manufacturer: Yageo; BOM1: R0603 -100 Ohm±1 %; BOM2: RС0603 ±1 %-100 Ом; ValueBOM: RC0603FR-07100RL   Yageo                            (RС0603 ±1 %-100 Ом); Value: 100 Ом; Package: 0603
footprint RESC_0603_1608N (Chip Resistor, Body 1.6x0.8mm, IPC Medium Density)
footprint RESC_0603_1608M (Chip Resistor, Body 1.6x0.8mm, IPC Low Density)
footprint RESC_0603_1608L (Chip Resistor, Body 1.6x0.8mm, IPC High Density)
pins: 1, 2

## RC0603FR-07120KL
designator R?, comment 120 кОм
SMD 0603 -120 кОм±1 %; Part Number: RC0603FR-07100KL; Manufacturer: Yageo; BOM1: R0603 -120K Ohm±1 %; BOM2: RС0603 ±1 %-120 кОм; ValueBOM: RC0603FR-07100KL   Yageo                            (RС0603 ±1 %-120 кОм); Value: 120 кОм; Package: 0603
footprint RESC_0603_1608N (Chip Resistor, Body 1.6x0.8mm, IPC Medium Density)
footprint RESC_0603_1608M (Chip Resistor, Body 1.6x0.8mm, IPC Low Density)
footprint RESC_0603_1608L (Chip Resistor, Body 1.6x0.8mm, IPC High Density)
pins: 1, 2

## RC0603FR-07120RL
designator R?, comment 120 Ом
SMD 0603 -120 Ом±1 %; Part Number: RC0603FR-07120RL; Manufacturer: Yageo; BOM1: R0603 -120 Ohm±1 %; BOM2: RС0603 ±1 %-120 Ом; ValueBOM: RC0603FR-07120RL   Yageo                            (RС0603 ±1 %-120 Ом); Value: 120 Ом; Package: 0603
footprint RESC_0603_1608N (Chip Resistor, Body 1.6x0.8mm, IPC Medium Density)
footprint RESC_0603_1608M (Chip Resistor, Body 1.6x0.8mm, IPC Low Density)
footprint RESC_0603_1608L (Chip Resistor, Body 1.6x0.8mm, IPC High Density)
pins: 1, 2

## RC0603FR-07130KL
designator R?, comment 130 кОм
SMD 0603 -130 кОм±1 %; Part Number: RC0603FR-07130KL; Manufacturer: Yageo; BOM1: R0603 -130K Ohm±1 %; BOM2: RС0603 ±1 %-130 кОм; ValueBOM: RC0603FR-07130KL   Yageo                            (RС0603 ±1 %-130 кОм); Value: 130 кОм; Package: 0603
footprint RESC_0603_1608N (Chip Resistor, Body 1.6x0.8mm, IPC Medium Density)
footprint RESC_0603_1608M (Chip Resistor, Body 1.6x0.8mm, IPC Low Density)
footprint RESC_0603_1608L (Chip Resistor, Body 1.6x0.8mm, IPC High Density)
pins: 1, 2

## RC0603FR-07150KL
designator R?, comment 150 кОм
SMD 0603 -150 кОм±1 %; Part Number: RC0603FR-07150KL; Manufacturer: Yageo; BOM1: R0603 -150K Ohm±1 %; BOM2: RС0603 ±1 %-150 кОм; ValueBOM: RC0603FR-07150KL   Yageo                            (RС0603 ±1 %-150 кОм); Value: 150 кОм; Package: 0603
footprint RESC_0603_1608N (Chip Resistor, Body 1.6x0.8mm, IPC Medium Density)
footprint RESC_0603_1608M (Chip Resistor, Body 1.6x0.8mm, IPC Low Density)
footprint RESC_0603_1608L (Chip Resistor, Body 1.6x0.8mm, IPC High Density)
pins: 1, 2

## RC0603FR-07232KL
designator R?, comment 232 кОм
SMD 0603 -232 кОм±1 %; Part Number: RC0603FR-07232KL; Manufacturer: Yageo; BOM1: R0603 -232K Ohm±1 %; BOM2: RС0603 ±1 %-232 кОм; ValueBOM: RC0603FR-07232KL   Yageo                            (RС0603 ±1 %-232 кОм); Value: 232 кОм; Package: 0603
footprint RESC_0603_1608N (Chip Resistor, Body 1.6x0.8mm, IPC Medium Density)
footprint RESC_0603_1608M (Chip Resistor, Body 1.6x0.8mm, IPC Low Density)
footprint RESC_0603_1608L (Chip Resistor, Body 1.6x0.8mm, IPC High Density)
pins: 1, 2

## RC0603FR-07240RL
designator R?, comment 240 Ом
SMD 0603 -240 Ом±1 %; Part Number: RC0603FR-07240RL; Manufacturer: Yageo; BOM1: R0603 -240 Ohm±1 %; BOM2: RС0603 ±1 %-240 Ом; ValueBOM: RC0603FR-07240RL   Yageo                            (RС0603 ±1 %-240 Ом); Value: 240 Ом; Package: 0603
footprint RESC_0603_1608N (Chip Resistor, Body 1.6x0.8mm, IPC Medium Density)
footprint RESC_0603_1608M (Chip Resistor, Body 1.6x0.8mm, IPC Low Density)
footprint RESC_0603_1608L (Chip Resistor, Body 1.6x0.8mm, IPC High Density)
pins: 1, 2

## RC0603FR-07390KL
designator R?, comment 390 кОм
SMD 0603 -390 кОм±1 %; Part Number: RC0603FR-07390KL; Manufacturer: Yageo; BOM1: R0603 -390K Ohm±1 %; BOM2: RС0603 ±1 %-390 кОм; ValueBOM: RC0603FR-07390KL   Yageo                            (RС0603 ±1 %-390 кОм); Value: 390 кОм; Package: 0603
footprint RESC_0603_1608N (Chip Resistor, Body 1.6x0.8mm, IPC Medium Density)
footprint RESC_0603_1608M (Chip Resistor, Body 1.6x0.8mm, IPC Low Density)
footprint RESC_0603_1608L (Chip Resistor, Body 1.6x0.8mm, IPC High Density)
pins: 1, 2

## RC0603FR-07412KL
designator R?, comment 412k
RC0603FR-07412KL 0603 412 kOhm ±1% 1/10W 0603 SMD -55C...+155C; Manufacturer: Yageo; BOM2: 412 кОм ±1%, 1/10 Вт, SMD 0603, RC0603FR-07412KL; ValueBOM: RC0603FR-07412KL   Yageo                            (412 кОм ±1%, 1/10 Вт, SMD 0603, RC0603FR-07412KL); Value: 412k; Part Number: RC0603FR-07412KL; Package: 0603; BOM1: 412 kOhm ±1% 1/10W 0603 SMD
footprint RESC_0603_1608N (Chip Resistor, Body 1.6x0.8mm, IPC Medium Density)
footprint RESC_0603_1608M (Chip Resistor, Body 1.6x0.8mm, IPC Low Density)
footprint RESC_0603_1608L (Chip Resistor, Body 1.6x0.8mm, IPC High Density)
pins: 1, 2

## RC0603FR-07470RL
designator R?, comment 470 Ом
SMD 0603 -470 Ом±1 %; Part Number: RC0603FR-07470RL; Manufacturer: Yageo; BOM1: R0603 -470 Ohm±1 %; BOM2: RС0603 ±1 %-470 Ом; ValueBOM: RC0603FR-07470RL   Yageo                            (RС0603 ±1 %-470 Ом); Value: 470 Ом; Package: 0603
footprint RESC_0603_1608N (Chip Resistor, Body 1.6x0.8mm, IPC Medium Density)
footprint RESC_0603_1608M (Chip Resistor, Body 1.6x0.8mm, IPC Low Density)
footprint RESC_0603_1608L (Chip Resistor, Body 1.6x0.8mm, IPC High Density)
pins: 1, 2

## RC0603FR-07680KL
designator R?, comment 680 кОм
SMD 0603 -680 кОм±1 %; Part Number: RC0603FR-07680KL; Manufacturer: Yageo; BOM1: R0603 -680K Ohm±1 %; BOM2: RС0603 ±1 %-680 кОм; ValueBOM: RC0603FR-07680KL   Yageo                            (RС0603 ±1 %-680 кОм); Value: 680 кОм; Package: 0603
footprint RESC_0603_1608N (Chip Resistor, Body 1.6x0.8mm, IPC Medium Density)
footprint RESC_0603_1608M (Chip Resistor, Body 1.6x0.8mm, IPC Low Density)
footprint RESC_0603_1608L (Chip Resistor, Body 1.6x0.8mm, IPC High Density)
pins: 1, 2

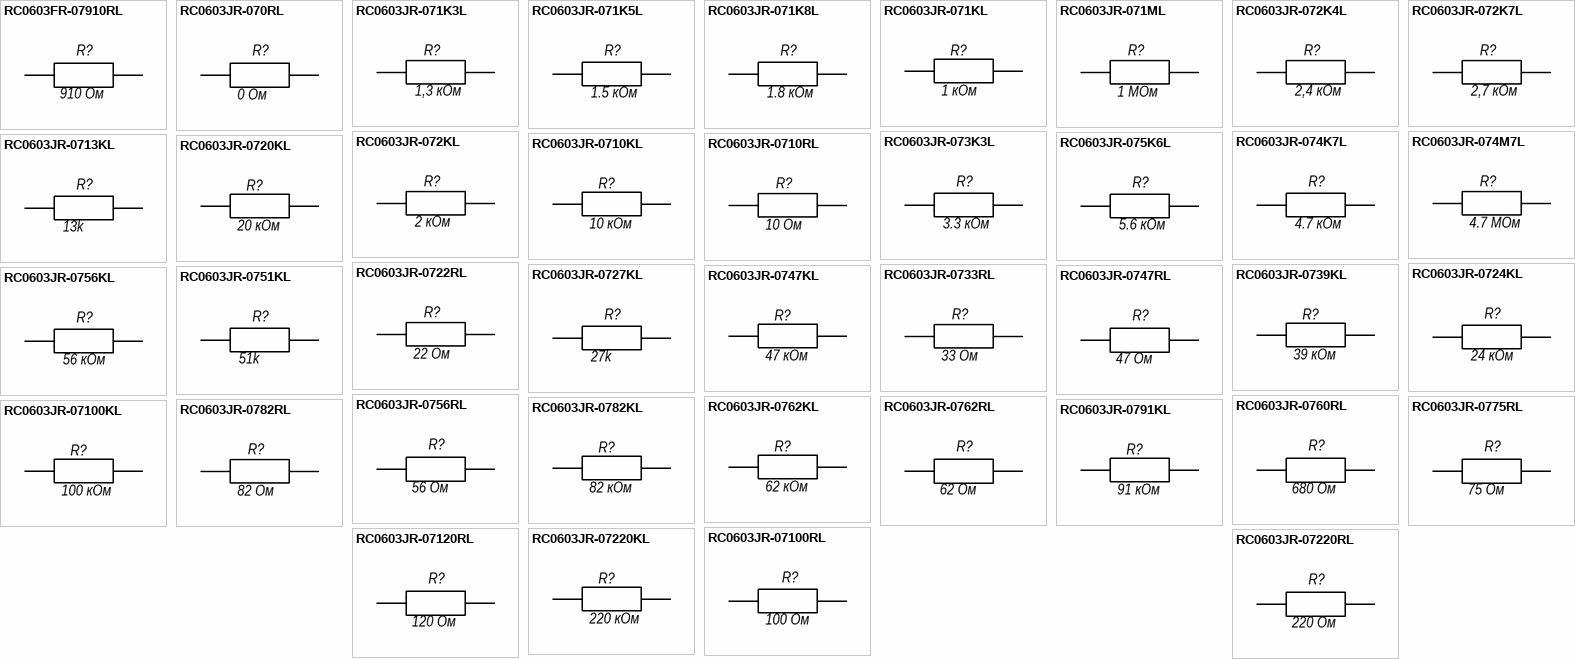
[diagram p4: symbols RC0603FR-07910RL to RC0603JR-07220RL]

## RC0603FR-07910RL
designator R?, comment 910 Ом
SMD 0603 -910 Ом±1 %; Part Number: RC0603FR-07910RL; Manufacturer: Yageo; BOM1: R0603 -910 Ohm±1 %; BOM2: RС0603 ±1 %-910 Ом; ValueBOM: RC0603FR-07910RL   Yageo                            (RС0603 ±1 %-910 Ом); Value: 910 Ом; Package: 0603
footprint RESC_0603_1608N (Chip Resistor, Body 1.6x0.8mm, IPC Medium Density)
footprint RESC_0603_1608M (Chip Resistor, Body 1.6x0.8mm, IPC Low Density)
footprint RESC_0603_1608L (Chip Resistor, Body 1.6x0.8mm, IPC High Density)
pins: 1, 2

## RC0603JR-070RL
designator R?, comment 0 Ом
SMD 0603 -0 Ом±5 %; Part Number: RC0603JR-070RL; Manufacturer: Yageo; BOM1: R0603 -0 Ohm±5 %; BOM2: RС0603 ±5 %-0 Ом; ValueBOM: RC0603JR-070RL   Yageo                            (RС0603 ±5 %-0 Ом); Value: 0 Ом; Package: 0603
footprint RESC_0603_1608N (Chip Resistor, Body 1.6x0.8mm, IPC Medium Density)
footprint RESC_0603_1608M (Chip Resistor, Body 1.6x0.8mm, IPC Low Density)
footprint RESC_0603_1608L (Chip Resistor, Body 1.6x0.8mm, IPC High Density)
pins: 1, 2

## RC0603JR-071K3L
designator R?, comment 1,3 кОм
SMD 0603 -1,3 кОм±5 %; Part Number: RC0603JR-071K3L; Manufacturer: Yageo; BOM1: R0603 -1,3K Ohm±5 %; BOM2: RС0603 ±5 %-1,3 кОм; ValueBOM: RC0603JR-071K3L   Yageo                            (RС0603 ±5 %-1,3 кОм); Value: 1,3 кОм; Package: 0603
footprint RESC_0603_1608N (Chip Resistor, Body 1.6x0.8mm, IPC Medium Density)
footprint RESC_0603_1608M (Chip Resistor, Body 1.6x0.8mm, IPC Low Density)
footprint RESC_0603_1608L (Chip Resistor, Body 1.6x0.8mm, IPC High Density)
pins: 1, 2

## RC0603JR-071K5L
designator R?, comment 1.5 кОм
SMD 0603 -1.5 кОм±5 %; Part Number: RC0603JR-071K5L; Manufacturer: Yageo; BOM1: R0603 -1.5K Ohm±5 %; BOM2: RС0603 ±5 %-1,5 кОм; ValueBOM: RC0603JR-071K5L   Yageo                            (RС0603 ±5 %-1,5 кОм); Value: 1.5 кОм; Package: 0603
footprint RESC_0603_1608N (Chip Resistor, Body 1.6x0.8mm, IPC Medium Density)
footprint RESC_0603_1608M (Chip Resistor, Body 1.6x0.8mm, IPC Low Density)
footprint RESC_0603_1608L (Chip Resistor, Body 1.6x0.8mm, IPC High Density)
pins: 1, 2

## RC0603JR-071K8L
designator R?, comment 1.8 кОм
SMD 0603 -1.8 кОм±5 %; Part Number: RC0603JR-071K8L; Manufacturer: Yageo; BOM1: R0603 -1.8K Ohm±5 %; BOM2: RС0603 ±5 %-1,8 кОм; ValueBOM: RC0603JR-071K8L   Yageo                            (RС0603 ±5 %-1,8 кОм); Value: 1.8 кОм; Package: 0603
footprint RESC_0603_1608N (Chip Resistor, Body 1.6x0.8mm, IPC Medium Density)
footprint RESC_0603_1608M (Chip Resistor, Body 1.6x0.8mm, IPC Low Density)
footprint RESC_0603_1608L (Chip Resistor, Body 1.6x0.8mm, IPC High Density)
pins: 1, 2

## RC0603JR-071KL
designator R?, comment 1 кОм
SMD 0603 -1 кОм±5 %; Part Number: RC0603JR-071KL; Manufacturer: Yageo; BOM1: R0603 -1K Ohm±5 %; BOM2: RС0603 ±5 %-1 кОм; ValueBOM: RC0603JR-071KL   Yageo                            (RС0603 ±5 %-1 кОм); Value: 1 кОм; Package: 0603
footprint RESC_0603_1608N (Chip Resistor, Body 1.6x0.8mm, IPC Medium Density)
footprint RESC_0603_1608M (Chip Resistor, Body 1.6x0.8mm, IPC Low Density)
footprint RESC_0603_1608L (Chip Resistor, Body 1.6x0.8mm, IPC High Density)
pins: 1, 2

## RC0603JR-071ML
designator R?, comment 1 MОм
SMD 0603 -1 МОм±5 %; Part Number: RC0603FR-071ML; Manufacturer: Yageo; BOM1: R0603 -1M Ohm±5 %; BOM2: RС0603 ±1 %-1 МОм; ValueBOM: RC0603FR-071ML   Yageo                            (RС0603 ±1 %-1 МОм); Value: 1 MОм; Package: 0603
footprint RESC_0603_1608N (Chip Resistor, Body 1.6x0.8mm, IPC Medium Density)
footprint RESC_0603_1608M (Chip Resistor, Body 1.6x0.8mm, IPC Low Density)
footprint RESC_0603_1608L (Chip Resistor, Body 1.6x0.8mm, IPC High Density)
pins: 1, 2

## RC0603JR-072K4L
designator R?, comment 2,4 кОм
SMD 0603 -2,4 кОм±5 %; Part Number: RC0603JR-072K4L; Manufacturer: Yageo; BOM1: R0603 -2,4K Ohm±5 %; BOM2: RС0603 ±5 %-2,4 кОм; ValueBOM: RC0603JR-072K4L   Yageo                            (RС0603 ±5 %-2,4 кОм); Value: 2,4 кОм; Package: 0603
footprint RESC_0603_1608N (Chip Resistor, Body 1.6x0.8mm, IPC Medium Density)
footprint RESC_0603_1608M (Chip Resistor, Body 1.6x0.8mm, IPC Low Density)
footprint RESC_0603_1608L (Chip Resistor, Body 1.6x0.8mm, IPC High Density)
pins: 1, 2

## RC0603JR-072K7L
designator R?, comment 2,7 кОм
SMD 0603 -2,7 кОм±5 %; Part Number: RC0603JR-072K7L; Manufacturer: Yageo; BOM1: R0603 -2,7K Ohm±5 %; BOM2: RС0603 ±5 %-2,7 кОм; ValueBOM: RC0603JR-072K7L   Yageo                            (RС0603 ±5 %-2,7 кОм); Value: 2,7 кОм; Package: 0603
footprint RESC_0603_1608N (Chip Resistor, Body 1.6x0.8mm, IPC Medium Density)
footprint RESC_0603_1608M (Chip Resistor, Body 1.6x0.8mm, IPC Low Density)
footprint RESC_0603_1608L (Chip Resistor, Body 1.6x0.8mm, IPC High Density)
pins: 1, 2

## RC0603JR-072KL
designator R?, comment 2 кОм
SMD 0603 -2 кОм±5 %; Part Number: RC0603JR-072KL; Manufacturer: Yageo; BOM1: R0603 -2 k Ohm±5 %; BOM2: RС0603 ±5 %-2 кОм; ValueBOM: RC0603JR-072KL   Yageo                            (RС0603 ±5 %-2 кОм); Value: 2 кОм; Package: 0603
footprint RESC_0603_1608N (Chip Resistor, Body 1.6x0.8mm, IPC Medium Density)
footprint RESC_0603_1608M (Chip Resistor, Body 1.6x0.8mm, IPC Low Density)
footprint RESC_0603_1608L (Chip Resistor, Body 1.6x0.8mm, IPC High Density)
pins: 1, 2

## RC0603JR-073K3L
designator R?, comment 3.3 кОм
SMD 0603 -3.3 кОм±5 %; Part Number: RC0603JR-073K3L; Manufacturer: Yageo; BOM1: R0603 -3.3K Ohm±5 %; BOM2: RС0603 ±5 %-3,3 кОм; ValueBOM: RC0603JR-073K3L   Yageo                            (RС0603 ±5 %-3,3 кОм); Value: 3.3 кОм; Package: 0603
footprint RESC_0603_1608N (Chip Resistor, Body 1.6x0.8mm, IPC Medium Density)
footprint RESC_0603_1608M (Chip Resistor, Body 1.6x0.8mm, IPC Low Density)
footprint RESC_0603_1608L (Chip Resistor, Body 1.6x0.8mm, IPC High Density)
pins: 1, 2

## RC0603JR-074K7L
designator R?, comment 4.7 кОм
SMD 0603 -4.7 кОм±5 %; Part Number: RC0603JR-074K7L; Manufacturer: Yageo; BOM1: R0603 -4.7K Ohm±5 %; BOM2: RС0603 ±5 %-4,7 кОм; ValueBOM: RC0603JR-074K7L   Yageo                            (RС0603 ±5 %-4,7 кОм); Value: 4.7 кОм; Package: 0603
footprint RESC_0603_1608N (Chip Resistor, Body 1.6x0.8mm, IPC Medium Density)
footprint RESC_0603_1608M (Chip Resistor, Body 1.6x0.8mm, IPC Low Density)
footprint RESC_0603_1608L (Chip Resistor, Body 1.6x0.8mm, IPC High Density)
pins: 1, 2

## RC0603JR-074M7L
designator R?, comment 4.7 MОм
SMD 0603 -4.7 МОм±5 %; Part Number: RC0603JR-074M7L; Manufacturer: Yageo; BOM1: R0603 -4.7 M Ohm±5 %; BOM2: RС0603 ±5 %-4,7 МОм; ValueBOM: RC0603JR-074M7L   Yageo                            (RС0603 ±5 %-4,7 МОм); Value: 4.7 MОм; Package: 0603
footprint RESC_0603_1608N (Chip Resistor, Body 1.6x0.8mm, IPC Medium Density)
footprint RESC_0603_1608M (Chip Resistor, Body 1.6x0.8mm, IPC Low Density)
footprint RESC_0603_1608L (Chip Resistor, Body 1.6x0.8mm, IPC High Density)
pins: 1, 2

## RC0603JR-075K6L
designator R?, comment 5.6 кОм
SMD 0603 -5.6 кОм±5 %; Part Number: RC0603JR-075K6L; Manufacturer: Yageo; BOM1: R0603 -5.6K Ohm±5 %; BOM2: RС0603 ±5 %-5,6 кОм; ValueBOM: RC0603JR-075K6L   Yageo                            (RС0603 ±5 %-5,6 кОм); Value: 5.6 кОм; Package: 0603
footprint RESC_0603_1608N (Chip Resistor, Body 1.6x0.8mm, IPC Medium Density)
footprint RESC_0603_1608M (Chip Resistor, Body 1.6x0.8mm, IPC Low Density)
footprint RESC_0603_1608L (Chip Resistor, Body 1.6x0.8mm, IPC High Density)
pins: 1, 2

## RC0603JR-0710KL
designator R?, comment 10 кОм
SMD 0603 -10 кОм±5 %; Part Number: RC0603JR-0710KL; Manufacturer: Yageo; BOM1: R0603 -10K Ohm±5 %; BOM2: RС0603 ±5 %-10 кОм; ValueBOM: RC0603JR-0710KL   Yageo                            (RС0603 ±5 %-10 кОм); Value: 10 кОм; Package: 0603
footprint RESC_0603_1608N (Chip Resistor, Body 1.6x0.8mm, IPC Medium Density)
footprint RESC_0603_1608M (Chip Resistor, Body 1.6x0.8mm, IPC Low Density)
footprint RESC_0603_1608L (Chip Resistor, Body 1.6x0.8mm, IPC High Density)
pins: 1, 2

## RC0603JR-0710RL
designator R?, comment 10 Ом
SMD 0603 -10 Ом±5 %; Part Number: RC0603JR-0710RL; Manufacturer: Yageo; BOM1: R0603 -10 Ohm±5 %; BOM2: RС0603 ±5 %-10 Ом; ValueBOM: RC0603JR-0710RL   Yageo                            (RС0603 ±5 %-10 Ом); Value: 10 Ом; Package: 0603
footprint RESC_0603_1608N (Chip Resistor, Body 1.6x0.8mm, IPC Medium Density)
footprint RESC_0603_1608M (Chip Resistor, Body 1.6x0.8mm, IPC Low Density)
footprint RESC_0603_1608L (Chip Resistor, Body 1.6x0.8mm, IPC High Density)
pins: 1, 2

## RC0603JR-0713KL
designator R?, comment 13k
RC0603JR-0713KL 0603 13 kOhm ±5% 1/10W 0603 SMD -55C...+155C; Manufacturer: Yageo; BOM2: 13 кОм ±5%, 1/10 Вт, SMD 0603, RC0603JR-0713KL; ValueBOM: RC0603JR-0713KL   Yageo                            (13 кОм ±5%, 1/10 Вт, SMD 0603, RC0603JR-0713KL); Value: 13k; Part Number: RC0603JR-0713KL; Package: 0603; BOM1: 13 kOhm ±5% 1/10W 0603 SMD
footprint RESC_0603_1608N (Chip Resistor, Body 1.6x0.8mm, IPC Medium Density)
footprint RESC_0603_1608M (Chip Resistor, Body 1.6x0.8mm, IPC Low Density)
footprint RESC_0603_1608L (Chip Resistor, Body 1.6x0.8mm, IPC High Density)
pins: 1, 2

## RC0603JR-0720KL
designator R?, comment 20 кОм
SMD 0603 -20 кОм±5 %; Part Number: RC0603JR-0720KL; Manufacturer: Yageo; BOM1: R0603 -20K Ohm±5 %; BOM2: RС0603 ±5 %-20 кОм; ValueBOM: RC0603JR-0720KL   Yageo                            (RС0603 ±5 %-20 кОм); Value: 20 кОм; Package: 0603
footprint RESC_0603_1608N (Chip Resistor, Body 1.6x0.8mm, IPC Medium Density)
footprint RESC_0603_1608M (Chip Resistor, Body 1.6x0.8mm, IPC Low Density)
footprint RESC_0603_1608L (Chip Resistor, Body 1.6x0.8mm, IPC High Density)
pins: 1, 2

## RC0603JR-0722RL
designator R?, comment 22 Ом
SMD 0603 -22 Ом±5 %; Part Number: RC0603JR-0722RL; Manufacturer: Yageo; BOM1: R0603 -22 Ohm±5 %; BOM2: RС0603 ±5 %-22 Ом; ValueBOM: RC0603JR-0722RL   Yageo                            (RС0603 ±5 %-22 Ом); Value: 22 Ом; Package: 0603
footprint RESC_0603_1608N (Chip Resistor, Body 1.6x0.8mm, IPC Medium Density)
footprint RESC_0603_1608M (Chip Resistor, Body 1.6x0.8mm, IPC Low Density)
footprint RESC_0603_1608L (Chip Resistor, Body 1.6x0.8mm, IPC High Density)
pins: 1, 2

## RC0603JR-0724KL
designator R?, comment 24 кОм
SMD 0603 -24 кОм±5 %; Part Number: RC0603JR-0724KL; Manufacturer: Yageo; BOM1: R0603 -24 k Ohm±5 %; BOM2: RС0603 ±5 %-24 кОм; ValueBOM: RC0603JR-0724KL   Yageo                            (RС0603 ±5 %-24 кОм); Value: 24 кОм; Package: 0603
footprint RESC_0603_1608N (Chip Resistor, Body 1.6x0.8mm, IPC Medium Density)
footprint RESC_0603_1608M (Chip Resistor, Body 1.6x0.8mm, IPC Low Density)
footprint RESC_0603_1608L (Chip Resistor, Body 1.6x0.8mm, IPC High Density)
pins: 1, 2

## RC0603JR-0727KL
designator R?, comment 27k
RC0603JR-0727KL 0603 27 kOhm ±5% 1/10W 0603 SMD -55C...+155C; Manufacturer: Yageo; BOM2: 27 кОм ±5%, 1/10 Вт, SMD 0603, RC0603JR-0727KL; ValueBOM: RC0603JR-0727KL   Yageo                            (27 кОм ±5%, 1/10 Вт, SMD 0603, RC0603JR-0727KL); Value: 27k; Part Number: RC0603JR-0727KL; Package: 0603; BOM1: 27 kOhm ±5% 1/10W 0603 SMD
footprint RESC_0603_1608N (Chip Resistor, Body 1.6x0.8mm, IPC Medium Density)
footprint RESC_0603_1608M (Chip Resistor, Body 1.6x0.8mm, IPC Low Density)
footprint RESC_0603_1608L (Chip Resistor, Body 1.6x0.8mm, IPC High Density)
pins: 1, 2

## RC0603JR-0733RL
designator R?, comment 33 Ом
SMD 0603 -33 Ом±5 %; Part Number: RC0603JR-0733RL; Manufacturer: Yageo; BOM1: R0603 -33 Ohm±5 %; BOM2: RС0603 ±5 %-33 Ом; ValueBOM: RC0603JR-0733RL   Yageo                            (RС0603 ±5 %-33 Ом); Value: 33 Ом; Package: 0603
footprint RESC_0603_1608N (Chip Resistor, Body 1.6x0.8mm, IPC Medium Density)
footprint RESC_0603_1608M (Chip Resistor, Body 1.6x0.8mm, IPC Low Density)
footprint RESC_0603_1608L (Chip Resistor, Body 1.6x0.8mm, IPC High Density)
pins: 1, 2

## RC0603JR-0739KL
designator R?, comment 39 кОм
SMD 0603 -39 кОм±5 %; Part Number: RC0603JR-0739KL; Manufacturer: Yageo; BOM1: R0603 -39K Ohm±5 %; BOM2: RС0603 ±5 %-39 кОм; ValueBOM: RC0603JR-0739KL   Yageo                            (RС0603 ±5 %-39 кОм); Value: 39 кОм; Package: 0603
footprint RESC_0603_1608N (Chip Resistor, Body 1.6x0.8mm, IPC Medium Density)
footprint RESC_0603_1608M (Chip Resistor, Body 1.6x0.8mm, IPC Low Density)
footprint RESC_0603_1608L (Chip Resistor, Body 1.6x0.8mm, IPC High Density)
pins: 1, 2

## RC0603JR-0747KL
designator R?, comment 47 кОм
SMD 0603 -47 кОм±5 %; Part Number: RC0603JR-0747KL; Manufacturer: Yageo; BOM1: R0603 -47K Ohm±5 %; BOM2: RС0603 ±5 %-47 кОм; ValueBOM: RC0603JR-0747KL   Yageo                            (RС0603 ±5 %-47 кОм); Value: 47 кОм; Package: 0603
footprint RESC_0603_1608N (Chip Resistor, Body 1.6x0.8mm, IPC Medium Density)
footprint RESC_0603_1608M (Chip Resistor, Body 1.6x0.8mm, IPC Low Density)
footprint RESC_0603_1608L (Chip Resistor, Body 1.6x0.8mm, IPC High Density)
pins: 1, 2

## RC0603JR-0747RL
designator R?, comment 47 Ом
SMD 0603 -47 Ом±5 %; Part Number: RC0603JR-0747RL; Manufacturer: Yageo; BOM1: R0603 -47 Ohm±5 %; BOM2: RС0603 ±5 %-47 Ом; ValueBOM: RC0603JR-0747RL   Yageo                            (RС0603 ±5 %-47 Ом); Value: 47 Ом; Package: 0603
footprint RESC_0603_1608N (Chip Resistor, Body 1.6x0.8mm, IPC Medium Density)
footprint RESC_0603_1608M (Chip Resistor, Body 1.6x0.8mm, IPC Low Density)
footprint RESC_0603_1608L (Chip Resistor, Body 1.6x0.8mm, IPC High Density)
pins: 1, 2

## RC0603JR-0751KL
designator R?, comment 51k
RC0603JR-0751KL 0603 51 kOhm ±5% 1/10W 0603 SMD -55C...+155C; Manufacturer: Yageo; BOM2: 51 кОм ±5%, 1/10 Вт, SMD 0603, RC0603JR-0751KL; ValueBOM: RC0603JR-0751KL   Yageo                            (51 кОм ±5%, 1/10 Вт, SMD 0603, RC0603JR-0751KL); Value: 51k; Part Number: RC0603JR-0751KL; Package: 0603; BOM1: 51 kOhm ±5% 1/10W 0603 SMD
footprint RESC_0603_1608N (Chip Resistor, Body 1.6x0.8mm, IPC Medium Density)
footprint RESC_0603_1608M (Chip Resistor, Body 1.6x0.8mm, IPC Low Density)
footprint RESC_0603_1608L (Chip Resistor, Body 1.6x0.8mm, IPC High Density)
pins: 1, 2